# Altium footprint library MORNSUN.PcbLib: 5 footprints
Each footprint in its own frame and in the unit in brackets; x right, y up, seen from the top. Pads: shape width x height; smd on the part's side, far side on the other; paste and mask are expansions set on the pad; w line width, h text height; cw(c..) or ccw(c..) is an arc to the next point about the centre after c.
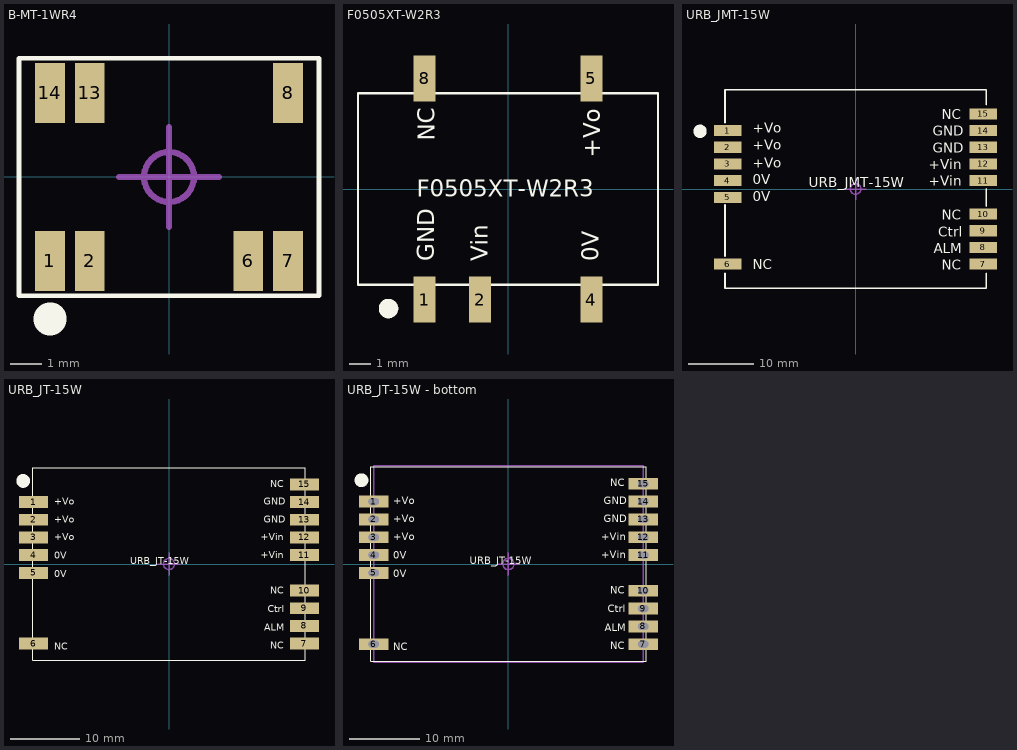
[diagram p0: the footprints below, top view; thin cyan lines are the x and y axes]

## B-MT-1WR4 [mm]
pads (7):
  rect 0.95x1.925 smd paste+0 mask-0.075: 1(-3.81,-2.686) 2(-2.54,-2.686) 6(2.54,-2.686) 7(3.81,-2.686) 8(3.81,2.686) 13(-2.54,2.686) 14(-3.81,2.686)
Top Overlay:
  circle w1: c-3.806,-4.543 r0.028
  lines w0.152: -4.8,-3.801 4.8,-3.801 4.8,3.799 -4.8,3.799 -4.8,-3.801
Mechanical 15:
  circle w0.2: c0,0 r0.8
  lines w0.2: -1.6,0 1.6,0 ; 0,-1.6 0,1.6
3D body "B0505MT-1WR4.STEP": height 3.1, standoff -0.01, extent -4.5,-3.449 4.5,3.555

## F0505XT-W2R3 [mm]
pads (5):
  rect 1x2.1 smd: 1(-3.81,-5.05) 2(-1.27,-5.05) 4(3.81,-5.05) 5(3.81,5.05) 8(-3.81,5.05)
Top Overlay:
  circle w0.5: c-5.456,-5.459 r0.196
  lines w0.1: -6.85,-4.375 -6.85,4.375 6.85,4.375 6.85,-4.375 -6.85,-4.375
  text "F0505XT-W2R3" at -4.171,-0.36 h0.76
  text "NC" at -3.344,2.199 h0.76
  text "+Vo" at 4.223,1.434 h0.76
  text "0V" at 4.138,-3.304 h0.76
  text "Vin" at -0.916,-3.304 h0.76
  text "GND" at -3.367,-3.304 h0.76
3D body "F0505XT-W2R3.stp": height 7.29, standoff 0.04, extent -6.6,-5.7 6.6,5.7

## URB_JMT-15W [mm]
pads (15):
  rect 4.2x1.7 smd: 1(-19.45,8.89) 2(-19.45,6.35) 3(-19.45,3.81) 4(-19.45,1.27) 5(-19.45,-1.27) 6(-19.45,-11.43) 7(19.45,-11.43) 8(19.45,-8.89) 9(19.45,-6.35) 10(19.45,-3.81) 11(19.45,1.27) 12(19.45,3.81) 13(19.45,6.35) 14(19.45,8.89) 15(19.45,11.43)
Top Overlay:
  circle w1.1: c-23.693,8.792 r0.462
  lines w0.254: -19.9,-12.849 -19.9,-15.1 19.9,-15.1 19.9,-12.849 ; -19.9,-10.263 -19.9,-2.407 ; -19.9,10.077 -19.9,15.1 19.9,15.1 19.9,12.849 ; 19.9,-2.641 19.9,0.011
  text "NC" at 13.097,10.633 h1.52
  text "GND" at 11.733,8.093 h1.52
  text "GND" at 11.733,5.553 h1.52
  text "+Vin" at 11.153,3.013 h1.52
  text "+Vin" at 11.153,0.473 h1.52
  text "NC" at 13.097,-4.716 h1.52
  text "Ctrl" at 12.589,-7.256 h1.52
  text "ALM" at 11.907,-9.796 h1.52
  text "NC" at 13.097,-12.336 h1.52
  text "NC" at -15.66,-12.207 h1.52
  text "0V" at -15.66,-1.831 h1.52
  text "0V" at -15.66,0.709 h1.52
  text "URB_JMT-15W" at -7.148,0.271 h1.52
  text "+Vo" at -15.66,3.249 h1.52
  text "+Vo" at -15.66,5.994 h1.52
  text "+Vo" at -15.66,8.549 h1.52
Mechanical 15:
  circle w0.2: c0,0 r0.8
  lines w0.2: -1.6,0 1.6,0 ; 0,-1.6 0,1.6
3D body "URB_JMT-15W.stp": height 6.4, standoff 0, extent -19.95,-14.75 19.95,14.75

## URB_JT-15W [mm]
pads (15):
  rect 4.2x1.7 smd: 1(-19.45,8.89) 2(-19.45,6.35) 3(-19.45,3.81) 4(-19.45,1.27) 5(-19.45,-1.27) 6(-19.45,-11.43) 7(19.45,-11.43) 8(19.45,-8.89) 9(19.45,-6.35) 10(19.45,-3.81) 11(19.45,1.27) 12(19.45,3.81) 13(19.45,6.35) 14(19.45,8.89) 15(19.45,11.43)
Top Overlay:
  circle w1: c-20.951,11.939 r0.489
  lines w0.15: -19.6,-13.85 -19.6,13.85 19.6,13.85 19.6,-13.85 -19.6,-13.85
  text "0V" at -16.451,-1.895 h1.02
  text "0V" at -16.451,0.764 h1.02
  text "ALM" at 13.718,-9.555 h1.02
  text "NC" at 14.511,-12.172 h1.02
  text "URB_JT-15W" at -5.539,-0.026 h1.02
  text "NC" at 14.511,11.059 h1.02
  text "+Vin" at 13.215,3.386 h1.02
  text "+Vin" at 13.215,0.829 h1.02
  text "NC" at 14.511,-4.272 h1.02
  text "Ctrl" at 14.173,-6.905 h1.02
  text "NC" at -16.451,-12.315 h1.02
  text "GND" at 13.602,5.944 h1.02
  text "GND" at 13.602,8.501 h1.02
  text "+Vo" at -16.451,3.383 h1.02
  text "+Vo" at -16.451,5.951 h1.02
  text "+Vo" at -16.451,8.519 h1.02
Mechanical 15:
  circle w0.2: c0,0 r0.8
  lines w0.2: -1.6,0 1.6,0 ; 0,-1.6 0,1.6
3D body "URB_JT-15W.stp": height 5.6, standoff 0, extent -19.95,-13.6 19.95,13.6

## URB_JT-15W - bottom [mm]
pads (15):
  rect 4.2x1.7 hole 1 slot 1.5 at 0 deg: 1(-19.2,8.89) 2(-19.2,6.35) 3(-19.2,3.81) 4(-19.2,1.27) 5(-19.2,-1.27) 6(-19.2,-11.43) 7(19.2,-11.43) 8(19.2,-8.89) 9(19.2,-6.35) 10(19.2,-3.81) 11(19.2,1.27) 12(19.2,3.81) 13(19.2,6.35) 14(19.2,8.89) 15(19.2,11.43)
Top Overlay:
  circle w1: c-20.951,11.939 r0.489
  lines w0.15: -19.6,-13.85 -19.6,13.85 19.6,13.85 19.6,-13.85 -19.6,-13.85
  text "0V" at -16.451,-1.895 h1.02
  text "0V" at -16.451,0.764 h1.02
  text "ALM" at 13.718,-9.555 h1.02
  text "NC" at 14.511,-12.172 h1.02
  text "URB_JT-15W" at -5.539,-0.026 h1.02
  text "NC" at 14.511,11.059 h1.02
  text "+Vin" at 13.215,3.386 h1.02
  text "+Vin" at 13.215,0.829 h1.02
  text "NC" at 14.511,-4.272 h1.02
  text "Ctrl" at 14.173,-6.905 h1.02
  text "NC" at -16.451,-12.315 h1.02
  text "GND" at 13.602,5.944 h1.02
  text "GND" at 13.602,8.501 h1.02
  text "+Vo" at -16.451,3.383 h1.02
  text "+Vo" at -16.451,5.951 h1.02
  text "+Vo" at -16.451,8.519 h1.02
Mechanical 1:
  lines w0.2: -19.2,-14 19.2,-14 19.2,14 -19.2,14 -19.2,-14
Mechanical 15:
  circle w0.2: c0,0 r0.8
  lines w0.2: -1.6,0 1.6,0 ; 0,-1.6 0,1.6
3D body "URB_JT-15W.stp": height 3.7, standoff -1.9, extent -19.95,-13.6 19.95,13.6